# Altium integrated library ISEN_basics_15-02-2023.IntLib: 282 symbols (part 2 of 2)
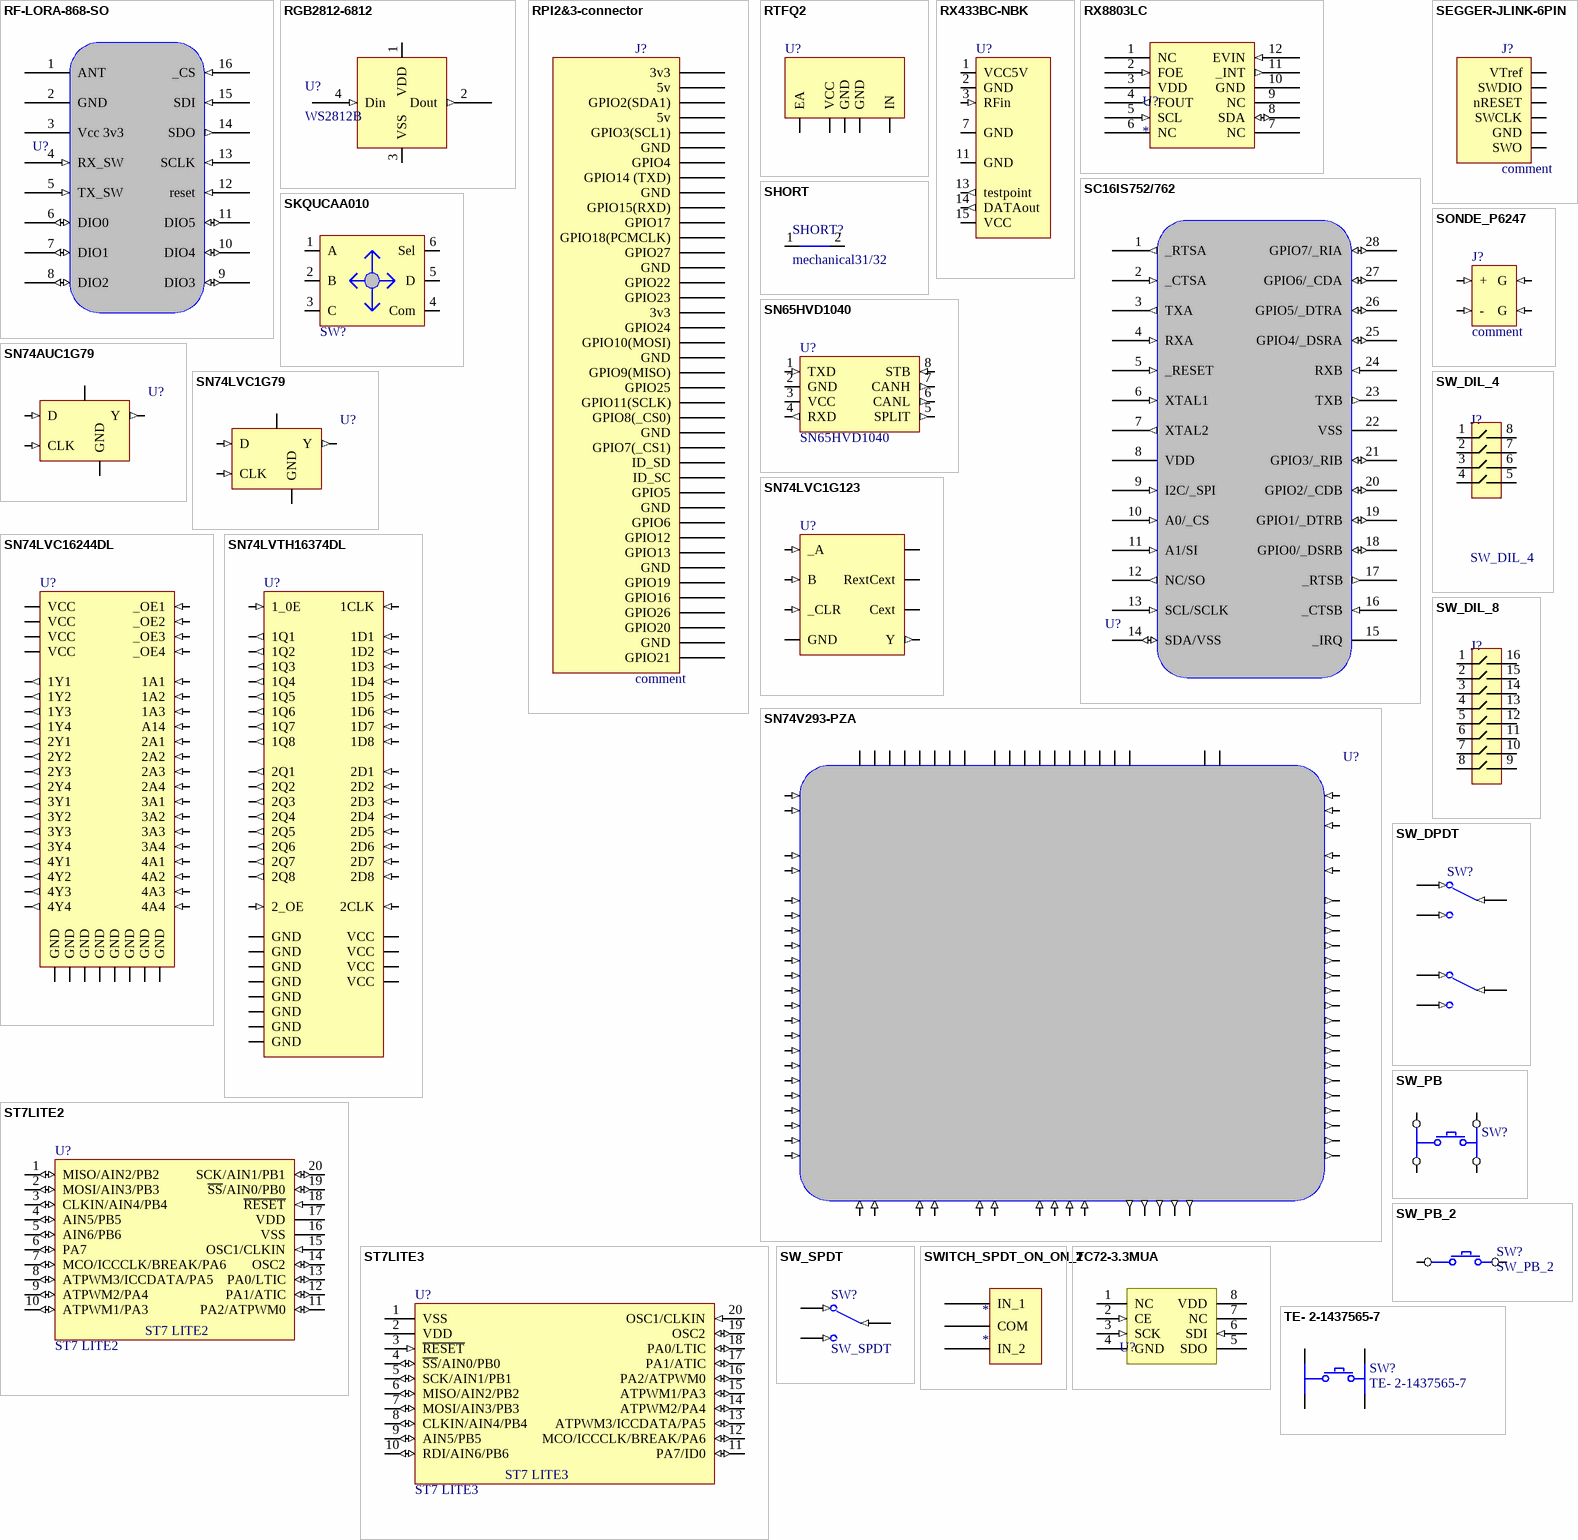
[diagram p9: symbols RF-LORA-868-SO to TE- 2-1437565-7]

## SN74LVC16244DL
designator U?
footprint SSOP48
pins: 1 _OE1 (in), 2 1Y1 (out), 3 1Y2 (out), 4 GND (power), 5 1Y3 (out), 6 1Y4 (out), 7 VCC (power), 8 2Y1 (out), 9 2Y2 (out), 10 GND (power), 11 2Y3 (out), 12 2Y4 (out), 13 3Y1 (out), 14 3Y2 (out), 15 GND (power), 16 3Y3 (out), 17 3Y4 (out), 18 VCC (power), 19 4Y1 (out), 20 4Y2 (out), 21 GND (power), 22 4Y3 (out), 23 4Y4 (out), 24 _OE4 (in), 25 _OE3 (in), 26 4A4 (in), 27 4A3 (in), 28 GND (power), 29 4A2 (in), 30 4A1 (in), 31 VCC (power), 32 3A4 (in), 33 3A3 (in), 34 GND (power), 35 3A2 (in), 36 3A1 (in), 37 2A4 (in), 38 2A3 (in), 39 GND (power), 40 2A2 (in), 41 2A1 (in), 42 VCC (power), 43 A14 (in), 44 1A3 (in), 45 GND (power), 46 1A2 (in), 47 1A1 (in), 48 _OE2 (in)

## SN74LVTH16374DL
designator U?
footprint SSOP48
pins: 1 1_0E (in), 2 1Q1 (out), 3 1Q2 (out), 4 GND (power), 5 1Q3 (out), 6 1Q4 (out), 7 VCC (power), 8 1Q5 (out), 9 1Q6 (out), 10 GND (power), 11 1Q7 (out), 12 1Q8 (out), 13 2Q1 (out), 14 2Q2 (out), 15 GND (power), 16 2Q3 (out), 17 2Q4 (out), 18 VCC (power), 19 2Q5 (out), 20 2Q6 (out), 21 GND (power), 22 2Q7 (out), 23 2Q8 (out), 24 2_OE (in), 25 2CLK (in), 26 2D8 (in), 27 2D7 (in), 28 GND (power), 29 2D6 (in), 30 2D5 (in), 31 VCC (power), 32 2D4 (in), 33 2D3 (in), 34 GND (power), 35 2D2 (in), 36 2D1 (in), 37 1D8 (in), 38 1D7 (in), 39 GND (power), 40 1D6 (in), 41 1D5 (in), 42 VCC (power), 43 1D4 (in), 44 1D3 (in), 45 GND (power), 46 1D2 (in), 47 1D1 (in), 48 1CLK (in)

## SN74V293-PZA
designator U?
footprint QFP80_065
pins: 1 _WEN (in), 2 _SEN (in), 3 DNC, 4 VCC (power), 5 DNC, 6 IW (in), 7 GND (power), 8 D17 (in), 9 VCC (power), 10 D16 (in), 11 D15 (in), 12 D14 (in), 13 D13 (in), 14 GND, 15 D12 (in), 16 D11 (in), 17 D10 (in), 18 D9 (in), 19 D8 (in), 20 VCC (power), 21 D7 (in), 22 D6 (in), 23 GND (power), 24 D5 (in), 25 D4 (in), 26 D3 (in), 27 D2 (in), 28 D1 (in), 29 D0 (in), 30 GND (power), 31 Q0 (out), 32 Q1 (out), 33 GND (power), 34 Q2 (out), 35 Q3 (out), 36 VCC (power), 37 Q4 (out), 38 Q5 (out), 39 GND (power), 40 Q6 (out), 41 Q7 (out), 42 Q8 (out), 43 Q9 (out), 44 VCC (power), 45 Q10 (out), 46 GND (power), 47 Q11 (out), 48 GND (power), 49 Q12 (out), 50 Q13 (out), 51 VCC (power), 52 Q14 (out), 53 Q15 (out), 54 GND (power), 55 GND (power), 56 Q16 (out), 57 Q17 (out), 58 VCC (power), 59 _OE (in), 60 _RT (in), 61 _REN (in), 62 RCLK (in), 63 RM (in), 64 _EF/_OR (out), 65 PFM (in), 66 _PAE (out), 67 VCC (power), 68 IP (in), 69 _BE (in), 70 FSEL1 (in), 71 _HF (out), 72 FSEL0 (in), 73 OW (in), 74 _PAF (out), 75 _FF/_IR (out), 76 FWFT/SI (in), 77 _LD (in), 78 _MRS (in), 79 _PRS (in), 80 WCLK (in)

## SONDE_P6247
designator J?, comment comment
footprint sonde_P6247
pins: 1 + (in), 2 - (in), 3 G (in), 4 G (in)

## ST7LITE2
designator U?, comment ST7 LITE2
footprint DIP20
pins: 1 MISO/AIN2/PB2 (io), 2 MOSI/AIN3/PB3 (io), 3 CLKIN/AIN4/PB4 (io), 4 AIN5/PB5 (io), 5 AIN6/PB6 (io), 6 PA7 (io), 7 MCO/ICCCLK/BREAK/PA6 (io), 8 ATPWM3/ICCDATA/PA5 (io), 9 ATPWM2/PA4 (io), 10 ATPWM1/PA3 (io), 11 PA2/ATPWM0 (io), 12 PA1/ATIC (io), 13 PA0/LTIC (io), 14 OSC2 (io), 15 OSC1/CLKIN (in), 16 VSS (power), 17 VDD (power), 18 ~{RESET} (in), 19 ~{SS}/AIN0/PB0 (io), 20 SCK/AIN1/PB1 (io)

## ST7LITE3
designator U?, comment ST7 LITE3
footprint DIP20
pins: 1 VSS (power), 2 VDD (power), 3 ~{RESET} (in), 4 ~{SS}/AIN0/PB0 (io), 5 SCK/AIN1/PB1 (io), 6 MISO/AIN2/PB2 (io), 7 MOSI/AIN3/PB3 (io), 8 CLKIN/AIN4/PB4 (io), 9 AIN5/PB5 (io), 10 RDI/AIN6/PB6 (io), 11 PA7/ID0 (io), 12 MCO/ICCCLK/BREAK/PA6 (io), 13 ATPWM3/ICCDATA/PA5 (io), 14 ATPWM2/PA4 (io), 15 ATPWM1/PA3 (io), 16 PA2/ATPWM0 (io), 17 PA1/ATIC (io), 18 PA0/LTIC (io), 19 OSC2 (io), 20 OSC1/CLKIN (in)

## SW_DIL_4
designator J?
footprint DIPSWITCH4_CMS
footprint DIPSWITCH4
pins: 1 (io), 2 (io), 3 (io), 4 (io), 5 (io), 6 (io), 7 (io), 8 (io)

## SW_DIL_8
designator J?
footprint DIPSWITCH8
footprint IKD0803000
pins: 1, 2, 3, 4, 5, 6, 7, 8, 9, 10, 11, 12, 13, 14, 15, 16

## SW_DPDT
designator SW?
footprint DPDT-glissiere-borddecarte
footprint dpdt_bascule
pins: 1 (in), 2 A (in), 3 B (in), 4 (in), 5 A (in), 6 B (in)

## SW_PB
designator SW?
footprint KSA
footprint 1ZB
footprint 1ZC
footprint B3F-4000
pins: 1, 2, 3, 4

## SW_PB_2
designator SW?
RS: 718-2477
footprint FSMSM
pins: 1, 2

## SW_SPDT
designator SW?
footprint NK236_V
footprint NK236_H
footprint 1K2_V
footprint 1K2_H
footprint RS734-7292
footprint RS734-6791
footprint FAR-947-3386
pins: 1 (in), 2 A (in), 3 B (in)

## SWITCH_SPDT_ON_ON_2
designator *
footprint SW_MFP-161
pins: 1 IN_1, 2 COM, 3 IN_2

## TC72-3.3MUA
designator U?  (value not drawn)
footprint MSOP8
pins: 1 NC, 2 CE (in), 3 SCK (in), 4 GND (power), 5 SDO (hiz), 6 SDI (in), 7 NC, 8 VDD (power)

## TE- 2-1437565-7
designator SW?
footprint TE- 2-1437565-7
pins: 1, 2, 3, 4

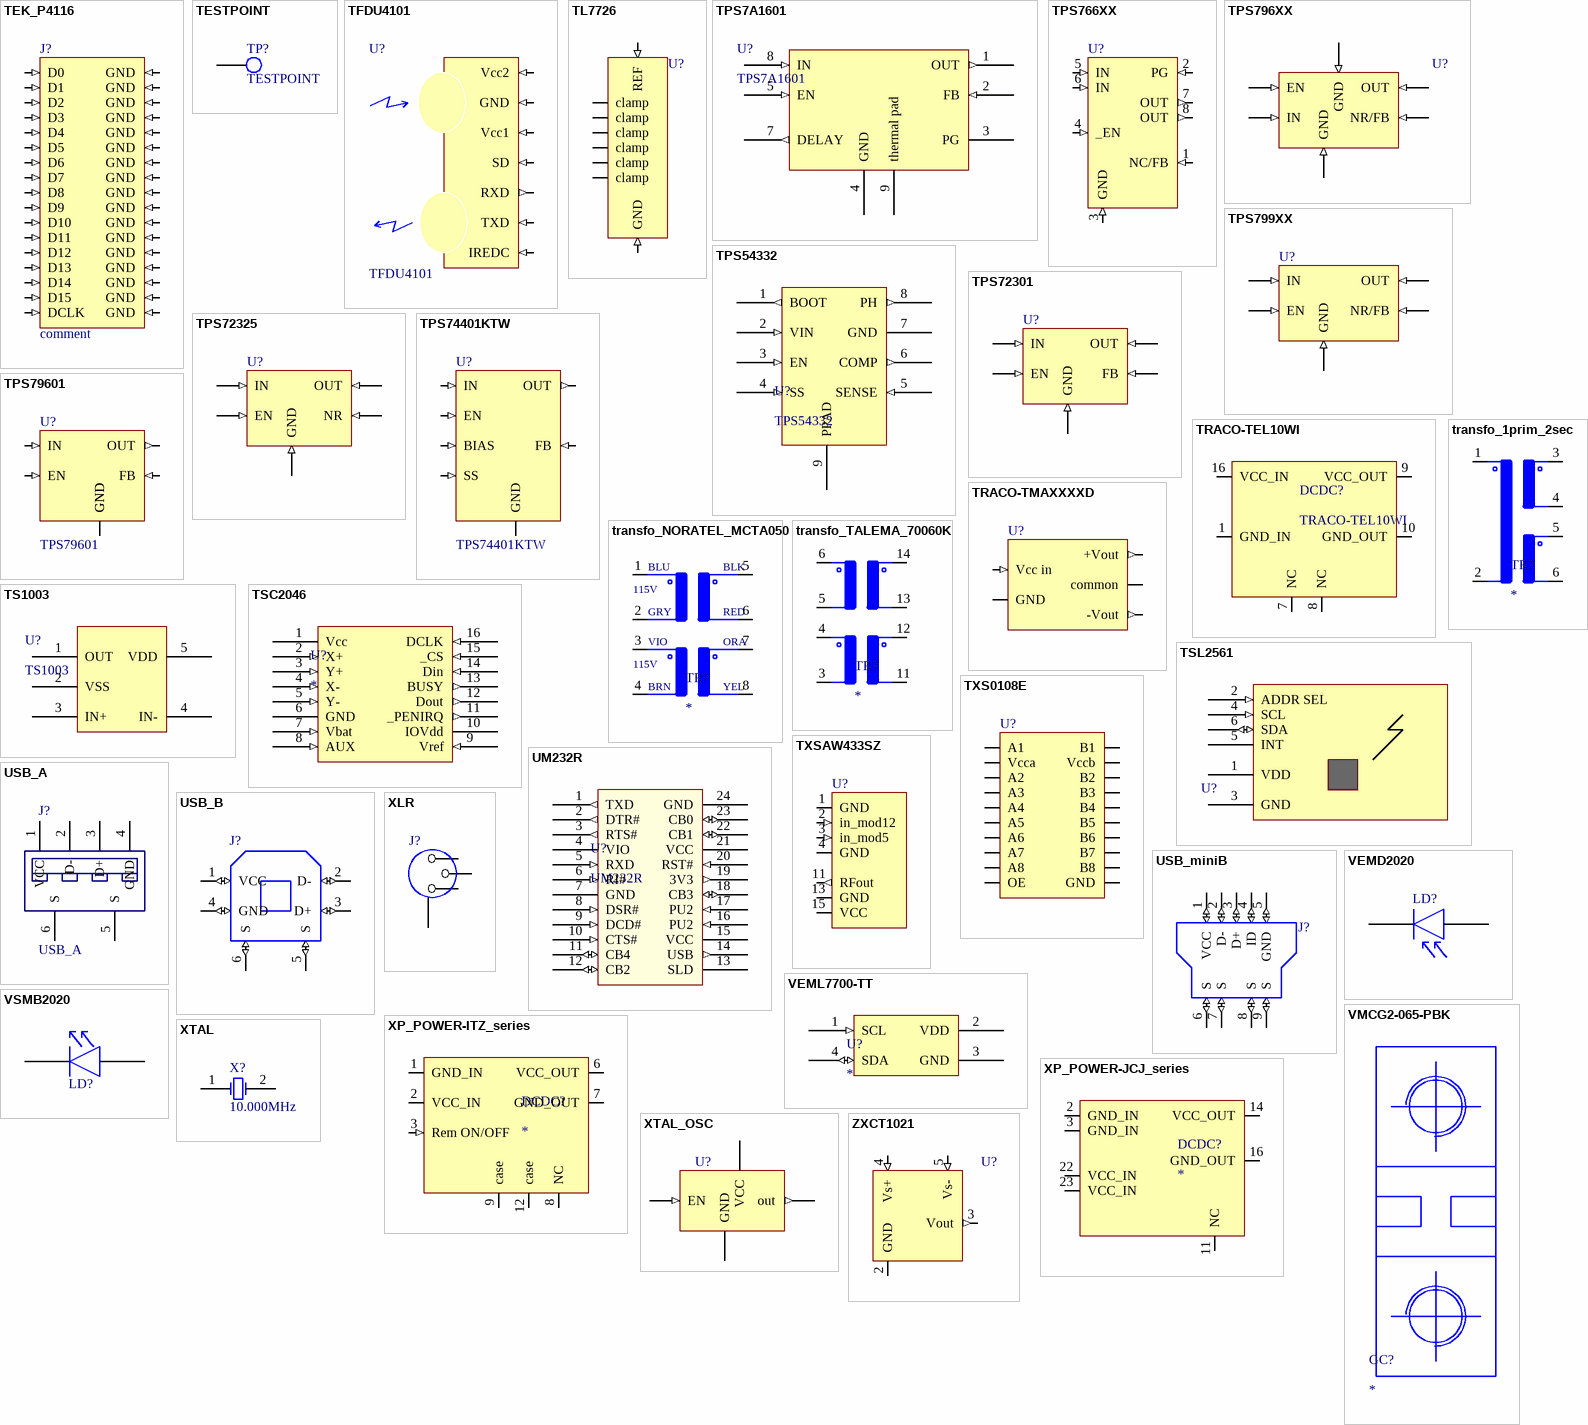
[diagram p8: symbols TEK_P4116 to ZXCT1021]

## TEK_P4116
designator J?, comment comment
footprint TEK_P4116_H
footprint TEK_P4116_V
pins: 1 D0 (in), 2 D1 (in), 3 D2 (in), 4 D3 (in), 5 D4 (in), 6 D5 (in), 7 D6 (in), 8 D7 (in), 9 D8 (in), 10 D9 (in), 11 D10 (in), 12 D11 (in), 13 D12 (in), 14 D13 (in), 15 D14 (in), 16 D15 (in), 17 DCLK (in), 18 GND (in), 19 GND (in), 20 GND (in), 21 GND (in), 22 GND (in), 23 GND (in), 24 GND (in), 25 GND (in), 26 GND (in), 27 GND (in), 28 GND (in), 29 GND (in), 30 GND (in), 31 GND (in), 32 GND (in), 33 GND (in), 34 GND (in)

## TESTPOINT
designator TP?
footprint testpoint
footprint testpoint2mm
footprint mini_testpoint
footprint testpoint2
footprint testpoint3
pins: 1

## TFDU4101
designator U?
footprint TFDU4101
pins: 1 Vcc2 (in), 2 IREDC (in), 3 TXD (in), 4 RXD (out), 5 SD (in), 6 Vcc1 (in), 8 GND (in)

## TL7726
designator U?
footprint SO8
footprint DIP8
pins: 1 GND (in), 2 clamp, 3 clamp, 4 clamp, 5 clamp, 6 clamp, 7 clamp, 8 REF (in)

## TPS7A1601
designator U?
footprint DGN0008C
pins: 1 OUT (out), 2 FB (in), 3 PG (oc), 4 GND (power), 5 EN (in), 7 DELAY (out), 8 IN (in), 9 thermal pad

## TPS766XX
designator U?
footprint SO8
pins: 1 NC/FB (in), 2 PG (in), 3 GND (in), 4 _EN (in), 5 IN (in), 6 IN (in), 7 OUT (out), 8 OUT (out)

## TPS796XX
designator U?
footprint SOT223_6
pins: 1 EN (in), 2 IN (in), 3 GND (in), 4 OUT (in), 5 NR/FB (in), 6 GND (in)

## TPS799XX
designator U?
footprint SOT23 - 5
pins: 1 IN (in), 2 GND (in), 3 EN (in), 4 NR/FB (in), 5 OUT (in)

## TPS54332
designator U?
footprint TI-DDA
pins: 1 BOOT (out), 2 VIN (in), 3 EN (in), 4 SS (in), 5 SENSE (in), 6 COMP (out), 7 GND (power), 8 PH (out), 9 PPAD

## TPS72301
designator U?
footprint DBV
pins: 1 GND (in), 2 IN (in), 3 EN (in), 4 FB (in), 5 OUT (in)

## TPS72325
designator U?
footprint DBV
pins: 1 GND (in), 2 IN (in), 3 EN (in), 4 NR (in), 5 OUT (in)

## TPS74401KTW
designator U?
footprint KTW
pins: 1 SS (in), 2 FB (in), 3 OUT (out), 4 GND (power), 5 IN (in), 6 BIAS (in), 7 EN (in)

## TPS79601
designator U?
footprint SOT223_6
pins: 1 EN (in), 2 IN (in), 3 GND, 4 OUT (out), 5 FB (in), 6 GND (power)

## TRACO-TEL10WI
designator DCDC?
DC-DC converter single output
footprint TRACO-TEL10WI
pins: 1 GND_IN (power), 7 NC, 8 NC, 9 VCC_OUT (power), 10 GND_OUT (power), 16 VCC_IN (power)

## TRACO-TMAXXXXD
designator U?
DC-DC converter dual output
footprint TRACO-TMAD
pins: 1 Vcc in (in), 2 GND (power), 4 -Vout (out), 5 common (power), 6 +Vout (out)

## transfo_1prim_2sec
designator TR?
footprint MYRRA-44272 (2x9V 10VA transformer)
footprint MYRRA-44309 (2x9V 10VA transformer)
pins: 1, 2, 3, 4, 5, 6

## transfo_NORATEL_MCTA050
designator TR?
footprint MCTA050
pins: 1, 2, 3, 4, 5, 6, 7, 8
text: BLU; BLK; 115V; GRY; RED; VIO; ORA; BRN; YEL

## transfo_TALEMA_70060K
designator TR?
footprint TALEMA_70060K
pins: 3, 4, 5, 6, 11, 12, 13, 14

## TS1003
designator U?
footprint SOT23 - 5
pins: 1 OUT (power), 2 VSS (power), 3 IN+ (power), 4 IN- (power), 5 VDD (power)

## TSC2046
designator U?
RESISTIVE TOUCH SCREEN CONTROLER
footprint TSSOP16
pins: 1 Vcc (power), 2 X+ (in), 3 Y+ (in), 4 X- (in), 5 Y- (in), 6 GND (power), 7 Vbat (in), 8 AUX (in), 9 Vref (in), 10 IOVdd (power), 11 _PENIRQ (out), 12 Dout (out), 13 BUSY (out), 14 Din (in), 15 _CS (in), 16 DCLK (in)

## TSL2561
designator U?  (value not drawn)
I2C light sensor
footprint TSL2561
pins: 1 VDD (power), 2 ADDR SEL (in), 3 GND (power), 4 SCL (in), 5 INT (oc), 6 SDA (io)

## TXS0108E
designator U?
footprint PDSO20
pins: 1 A1, 2 Vcca (power), 3 A2 (io), 4 A3 (io), 5 A4 (io), 6 A5 (io), 7 A6 (io), 8 A7 (io), 9 A8 (io), 10 OE (io), 11 GND (io), 12 B8 (io), 13 B7 (io), 14 B6 (io), 15 B5 (io), 16 B4 (io), 17 B3 (io), 18 B2 (io), 19 Vccb (io), 20 B1 (io)

## TXSAW433SZ
designator U?
footprint TXSAW433SZ
pins: 1 GND (power), 2 in_mod12 (in), 3 in_mod5 (in), 4 GND (power), 11 RFout (out), 13 GND (power), 15 VCC (power)

## UM232R
designator U?
footprint UM232R
pins: 1 TXD (out), 2 DTR# (out), 3 RTS# (out), 4 VIO (power), 5 RXD (in), 6 RI# (in), 7 GND (power), 8 DSR# (in), 9 DCD# (in), 10 CTS# (in), 11 CB4 (io), 12 CB2 (io), 13 SLD (power), 14 USB (out), 15 VCC (power), 16 PU2 (in), 17 PU2 (in), 18 CB3 (io), 19 3V3 (out), 20 RST# (in), 21 VCC (power), 22 CB1 (io), 23 CB0 (io), 24 GND (power)

## USB_A
designator J?
footprint USB_A_V
pins: 1 VCC, 2 D-, 3 D+, 4 GND, 5 S, 6 S

## USB_B
designator J?
footprint USB_B
pins: 1 VCC (io), 2 D- (io), 3 D+ (io), 4 GND (io), 5 S (io), 6 S (io)

## USB_miniB
designator J?
footprint USB_miniB
pins: 1 VCC (io), 2 D- (io), 3 D+ (io), 4 ID (io), 5 GND (io), 6 S (io), 7 S (io), 8 S (io), 9 S (io)

## VEMD2020
designator LD?
Photodiode IR
footprint VEMD2020
pins: A 8, K 10

## VEML7700-TT
designator U?
footprint VEML7700-TT
pins: 1 SCL (in), 2 VDD (power), 3 GND (power), 4 SDA (io)

## VMCG2-065-PBK
designator GC?
footprint VMCG2-065-PBK

## VSMB2020
designator LD?, comment comment  (value not drawn)
LED IR
footprint VSMB2020
pins: A 8, K 10

## XLR
designator J?
prise XLR
pins: 1, 2, 3, 4

## XP_POWER-ITZ_series
designator DCDC?
DC-DC converter single output
footprint XPPOWER-ITZ
pins: 1 GND_IN (power), 2 VCC_IN (power), 3 Rem ON/OFF (in), 6 VCC_OUT (power), 7 GND_OUT (power), 8 NC (power), 9 case, 12 case

## XP_POWER-JCJ_series
designator DCDC?
DC-DC converter single output
footprint XPPOWER-JCJ
pins: 2 GND_IN (power), 3 GND_IN (power), 11 NC, 14 VCC_OUT (power), 16 GND_OUT (power), 22 VCC_IN (power), 23 VCC_IN (power)

## XTAL
designator X?, comment 10.000MHz
Quartz; Manufacturer: Generic Components; Class I: Oscillator; Class II: Crystal Oscillator; Published: 8-Jun-2000; Revision: July-2002: Re-released for DXP Platform.; Publisher: Altium Limited
footprint HC5U
footprint NC26LF
footprint HC-49S-SMD (SMD quartz crystal)
footprint quartz5032
footprint HC-49S
footprint QTC3
pins: 1 OSC1, 2 OSC2

## XTAL_OSC
designator U?
TTL/CMOS quartz oscillator
footprint CTS-CB3-XTALOSC
pins: 1 EN (in) hidden to VCC, 2 GND (power) hidden to VCC, 3 out (out), 4 VCC (power) hidden to GND

## ZXCT1021
designator U?
footprint SOT23 - 5
pins: 2 GND (power), 3 Vout (out), 4 Vs+ (in), 5 Vs- (in)